# Altium schematic symbol library MI_Personal.SchLib: 995 symbols (part 4 of 12)
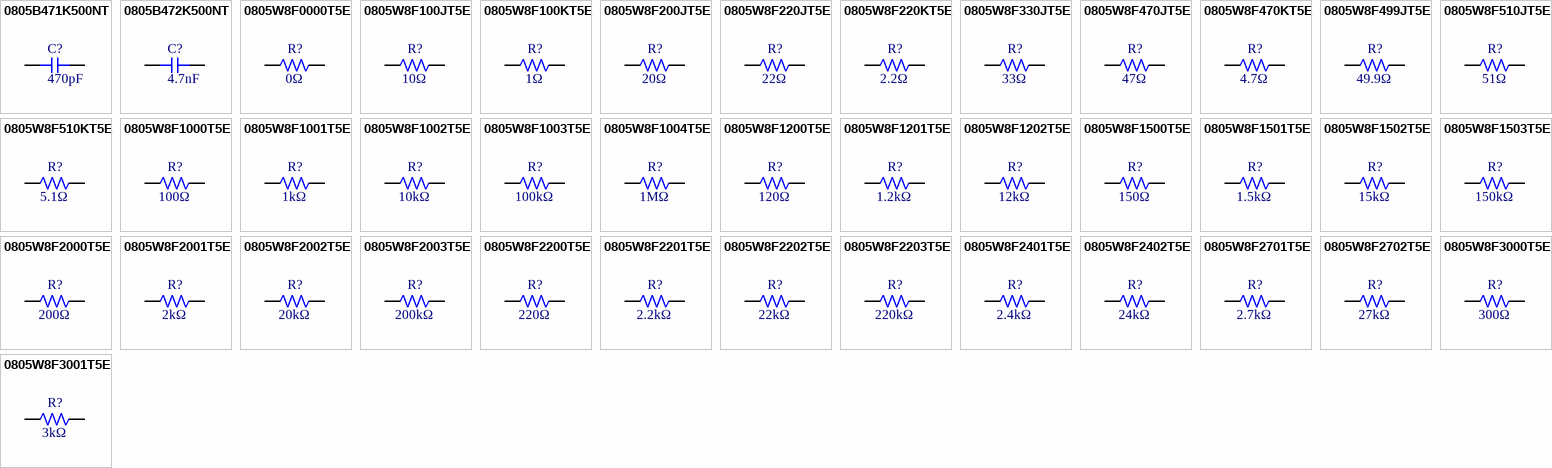
[diagram p30: symbols 0805B471K500NT to 0805W8F3001T5E]

## 0805W8F2200T5E
designator R?  Resistance: 220Ω  (hidden comment: *)
Resistor, 220Ω, ±1%, 125mW, 150V, ±100ppm/℃, -55℃~+155℃, SMD 0805; Manufacturer: Uniroyal; Manufacturer Part Number: 0805W8F2200T5E; Supplier 1: LCSC; Supplier Part Number 1: C17557; JLCPCB Part Number: C17557; Power Rating: 125mW; Category: Resistors; Package Size: 0805; JLCPCB Basic Part: Yes; Tolerance: ±1%; Voltage Rating: 150V; Temperature Coefficient: ±100ppm/℃; Temperature Rating: -55℃~+155℃; ComponentLink1Description: Datasheet; ComponentLink1URL: https://wmsc.lcsc.com/wmsc/upload/file/pdf/v2/lcsc/2206010200_UNI-ROYAL-Uniroyal-Elec-0805W8F2200T5E_C17557.pdf; ComponentLink2Description: JLCPCB Part URL; ComponentLink2URL: https://jlcpcb.com/partdetail/C17557
footprint RES-0805 (0805 (2012M) Resistor)
pins: 1, 2
1 alternate drawing of the same symbol

## 0805W8F2201T5E
designator R?  Resistance: 2.2kΩ  (hidden comment: *)
Resistor, 2.2kΩ, ±1%, 125mW, 150V, ±100ppm/℃, -55℃~+155℃, SMD 0805; Manufacturer: Uniroyal; Manufacturer Part Number: 0805W8F2201T5E; Supplier 1: LCSC; Supplier Part Number 1: C17520; JLCPCB Part Number: C17520; Power Rating: 125mW; Category: Resistors; Package Size: 0805; JLCPCB Basic Part: Yes; Tolerance: ±1%; Voltage Rating: 150V; Temperature Coefficient: ±100ppm/℃; Temperature Rating: -55℃~+155℃; ComponentLink1Description: Datasheet; ComponentLink1URL: https://wmsc.lcsc.com/wmsc/upload/file/pdf/v2/lcsc/2206010200_UNI-ROYAL-Uniroyal-Elec-0805W8F2201T5E_C17520.pdf; ComponentLink2Description: JLCPCB Part URL; ComponentLink2URL: https://jlcpcb.com/partdetail/C17520
footprint RES-0805 (0805 (2012M) Resistor)
pins: 1, 2
1 alternate drawing of the same symbol

## 0805W8F2202T5E
designator R?  Resistance: 22kΩ  (hidden comment: *)
Resistor, 22kΩ, ±1%, 125mW, 150V, ±100ppm/℃, -55℃~+155℃, SMD 0805; Manufacturer: Uniroyal; Manufacturer Part Number: 0805W8F2202T5E; Supplier 1: LCSC; Supplier Part Number 1: C17560; JLCPCB Part Number: C17560; Power Rating: 125mW; Category: Resistors; Package Size: 0805; JLCPCB Basic Part: Yes; Tolerance: ±1%; Voltage Rating: 150V; Temperature Coefficient: ±100ppm/℃; Temperature Rating: -55℃~+155℃; ComponentLink1Description: Datasheet; ComponentLink1URL: https://wmsc.lcsc.com/wmsc/upload/file/pdf/v2/lcsc/2206010200_UNI-ROYAL-Uniroyal-Elec-0805W8F2202T5E_C17560.pdf; ComponentLink2Description: JLCPCB Part URL; ComponentLink2URL: https://jlcpcb.com/partdetail/C17560
footprint RES-0805 (0805 (2012M) Resistor)
pins: 1, 2
1 alternate drawing of the same symbol

## 0805W8F2203T5E
designator R?  Resistance: 220kΩ  (hidden comment: *)
Resistor, 220kΩ, ±1%, 125mW, 150V, ±100ppm/℃, -55℃~+155℃, SMD 0805; Manufacturer: Uniroyal; Manufacturer Part Number: 0805W8F2203T5E; Supplier 1: LCSC; Supplier Part Number 1: C17556; JLCPCB Part Number: C17556; Power Rating: 125mW; Category: Resistors; Package Size: 0805; JLCPCB Basic Part: Yes; Tolerance: ±1%; Voltage Rating: 150V; Temperature Coefficient: ±100ppm/℃; Temperature Rating: -55℃~+155℃; ComponentLink1Description: Datasheet; ComponentLink1URL: https://wmsc.lcsc.com/wmsc/upload/file/pdf/v2/lcsc/2206010200_UNI-ROYAL-Uniroyal-Elec-0805W8F2203T5E_C17556.pdf; ComponentLink2Description: JLCPCB Part URL; ComponentLink2URL: https://jlcpcb.com/partdetail/C17556
footprint RES-0805 (0805 (2012M) Resistor)
pins: 1, 2
1 alternate drawing of the same symbol

## 0805W8F2401T5E
designator R?  Resistance: 2.4kΩ  (hidden comment: *)
Resistor, 2.4kΩ, ±1%, 125mW, 150V, ±100ppm/℃, -55℃~+155℃, SMD 0805; Manufacturer: Uniroyal; Manufacturer Part Number: 0805W8F2401T5E; Supplier 1: LCSC; Supplier Part Number 1: C17526; JLCPCB Part Number: C17526; Power Rating: 125mW; Category: Resistors; Package Size: 0805; JLCPCB Basic Part: Yes; Tolerance: ±1%; Voltage Rating: 150V; Temperature Coefficient: ±100ppm/℃; Temperature Rating: -55℃~+155℃; ComponentLink1Description: Datasheet; ComponentLink1URL: https://wmsc.lcsc.com/wmsc/upload/file/pdf/v2/lcsc/2206010200_UNI-ROYAL-Uniroyal-Elec-0805W8F2401T5E_C17526.pdf; ComponentLink2Description: JLCPCB Part URL; ComponentLink2URL: https://jlcpcb.com/partdetail/C17526
footprint RES-0805 (0805 (2012M) Resistor)
pins: 1, 2
1 alternate drawing of the same symbol

## 0805W8F2402T5E
designator R?  Resistance: 24kΩ  (hidden comment: *)
Resistor, 24kΩ, ±1%, 125mW, 150V, ±100ppm/℃, -55℃~+155℃, SMD 0805; Manufacturer: Uniroyal; Manufacturer Part Number: 0805W8F2402T5E; Supplier 1: LCSC; Supplier Part Number 1: C17575; JLCPCB Part Number: C17575; Power Rating: 125mW; Category: Resistors; Package Size: 0805; JLCPCB Basic Part: Yes; Tolerance: ±1%; Voltage Rating: 150V; Temperature Coefficient: ±100ppm/℃; Temperature Rating: -55℃~+155℃; ComponentLink1Description: Datasheet; ComponentLink1URL: https://wmsc.lcsc.com/wmsc/upload/file/pdf/v2/lcsc/2206010200_UNI-ROYAL-Uniroyal-Elec-0805W8F2402T5E_C17575.pdf; ComponentLink2Description: JLCPCB Part URL; ComponentLink2URL: https://jlcpcb.com/partdetail/C17575
footprint RES-0805 (0805 (2012M) Resistor)
pins: 1, 2
1 alternate drawing of the same symbol

## 0805W8F2701T5E
designator R?  Resistance: 2.7kΩ  (hidden comment: *)
Resistor, 2.7kΩ, ±1%, 125mW, 150V, ±100ppm/℃, -55℃~+155℃, SMD 0805; Manufacturer: Uniroyal; Manufacturer Part Number: 0805W8F2701T5E; Supplier 1: LCSC; Supplier Part Number 1: C17530; JLCPCB Part Number: C17530; Power Rating: 125mW; Category: Resistors; Package Size: 0805; JLCPCB Basic Part: Yes; Tolerance: ±1%; Voltage Rating: 150V; Temperature Coefficient: ±100ppm/℃; Temperature Rating: -55℃~+155℃; ComponentLink1Description: Datasheet; ComponentLink1URL: https://wmsc.lcsc.com/wmsc/upload/file/pdf/v2/lcsc/2206010200_UNI-ROYAL-Uniroyal-Elec-0805W8F2701T5E_C17530.pdf; ComponentLink2Description: JLCPCB Part URL; ComponentLink2URL: https://jlcpcb.com/partdetail/C17530
footprint RES-0805 (0805 (2012M) Resistor)
pins: 1, 2
1 alternate drawing of the same symbol

## 0805W8F2702T5E
designator R?  Resistance: 27kΩ  (hidden comment: *)
Resistor, 27kΩ, ±1%, 125mW, 150V, ±100ppm/℃, -55℃~+155℃, SMD 0805; Manufacturer: Uniroyal; Manufacturer Part Number: 0805W8F2702T5E; Supplier 1: LCSC; Supplier Part Number 1: C17593; JLCPCB Part Number: C17593; Power Rating: 125mW; Category: Resistors; Package Size: 0805; JLCPCB Basic Part: Yes; Tolerance: ±1%; Voltage Rating: 150V; Temperature Coefficient: ±100ppm/℃; Temperature Rating: -55℃~+155℃; ComponentLink1Description: Datasheet; ComponentLink1URL: https://wmsc.lcsc.com/wmsc/upload/file/pdf/v2/lcsc/2206010200_UNI-ROYAL-Uniroyal-Elec-0805W8F2702T5E_C17593.pdf; ComponentLink2Description: JLCPCB Part URL; ComponentLink2URL: https://jlcpcb.com/partdetail/C17593
footprint RES-0805 (0805 (2012M) Resistor)
pins: 1, 2
1 alternate drawing of the same symbol

## 0805W8F3000T5E
designator R?  Resistance: 300Ω  (hidden comment: *)
Resistor, 300Ω, ±1%, 125mW, 150V, ±100ppm/℃, -55℃~+155℃, SMD 0805; Manufacturer: Uniroyal; Manufacturer Part Number: 0805W8F3000T5E; Supplier 1: LCSC; Supplier Part Number 1: C17617; JLCPCB Part Number: C17617; Power Rating: 125mW; Category: Resistors; Package Size: 0805; JLCPCB Basic Part: Yes; Tolerance: ±1%; Voltage Rating: 150V; Temperature Coefficient: ±100ppm/℃; Temperature Rating: -55℃~+155℃
footprint RES-0805 (0805 (2012M) Resistor)
pins: 1, 2
1 alternate drawing of the same symbol

## 0805W8F3001T5E
designator R?  Resistance: 3kΩ  (hidden comment: *)
Resistor, 3kΩ, ±1%, 125mW, 150V, ±100ppm/℃, -55℃~+155℃, SMD 0805; Manufacturer: Uniroyal; Manufacturer Part Number: 0805W8F3001T5E; Supplier 1: LCSC; Supplier Part Number 1: C17661; JLCPCB Part Number: C17661; Power Rating: 125mW; Category: Resistors; Package Size: 0805; JLCPCB Basic Part: Yes; Tolerance: ±1%; Voltage Rating: 150V; Temperature Coefficient: ±100ppm/℃; Temperature Rating: -55℃~+155℃; ComponentLink1Description: Datasheet; ComponentLink1URL: https://wmsc.lcsc.com/wmsc/upload/file/pdf/v2/lcsc/2206010200_UNI-ROYAL-Uniroyal-Elec-0805W8F3001T5E_C17661.pdf; ComponentLink2Description: JLCPCB Part URL; ComponentLink2URL: https://jlcpcb.com/partdetail/C17661
footprint RES-0805 (0805 (2012M) Resistor)
pins: 1, 2
1 alternate drawing of the same symbol

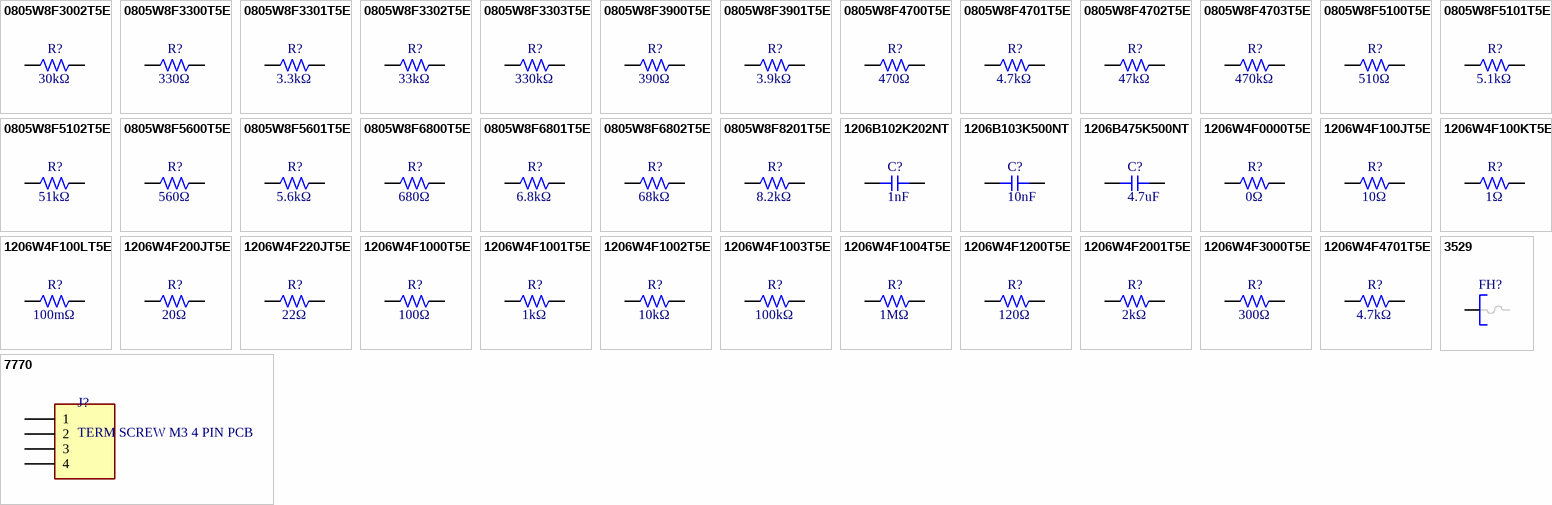
[diagram p5: symbols 0805W8F3002T5E to 7770]

## 0805W8F3002T5E
designator R?  Resistance: 30kΩ  (hidden comment: *)
Resistor, 30kΩ, ±1%, 125mW, 150V, ±100ppm/℃, -55℃~+155℃, SMD 0805; Manufacturer: Uniroyal; Manufacturer Part Number: 0805W8F3002T5E; Supplier 1: LCSC; Supplier Part Number 1: C17621; JLCPCB Part Number: C17621; Power Rating: 125mW; Category: Resistors; Package Size: 0805; JLCPCB Basic Part: Yes; Tolerance: ±1%; Voltage Rating: 150V; Temperature Coefficient: ±100ppm/℃; Temperature Rating: -55℃~+155℃; ComponentLink1Description: Datasheet; ComponentLink1URL: https://wmsc.lcsc.com/wmsc/upload/file/pdf/v2/lcsc/2205311830_UNI-ROYAL-Uniroyal-Elec-0805W8F3002T5E_C17621.pdf; ComponentLink2Description: JLCPCB Part URL; ComponentLink2URL: https://jlcpcb.com/partdetail/C17621
footprint RES-0805 (0805 (2012M) Resistor)
pins: 1, 2
1 alternate drawing of the same symbol

## 0805W8F3300T5E
designator R?  Resistance: 330Ω  (hidden comment: *)
Resistor, 330Ω, ±1%, 125mW, 150V, ±100ppm/℃, -55℃~+155℃, SMD 0805; Manufacturer: Uniroyal; Manufacturer Part Number: 0805W8F3300T5E; Supplier 1: LCSC; Supplier Part Number 1: C17630; JLCPCB Part Number: C17630; Power Rating: 125mW; Category: Resistors; Package Size: 0805; JLCPCB Basic Part: Yes; Tolerance: ±1%; Voltage Rating: 150V; Temperature Coefficient: ±100ppm/℃; Temperature Rating: -55℃~+155℃; ComponentLink1Description: Datasheet; ComponentLink1URL: https://wmsc.lcsc.com/wmsc/upload/file/pdf/v2/lcsc/2205311830_UNI-ROYAL-Uniroyal-Elec-0805W8F3300T5E_C17630.pdf; ComponentLink2Description: JLCPCB Part URL; ComponentLink2URL: https://jlcpcb.com/partdetail/C17630
footprint RES-0805 (0805 (2012M) Resistor)
pins: 1, 2
1 alternate drawing of the same symbol

## 0805W8F3301T5E
designator R?  Resistance: 3.3kΩ  (hidden comment: *)
Resistor, 3.3kΩ, ±1%, 125mW, 150V, ±100ppm/℃, -55℃~+155℃, SMD 0805; Manufacturer: Uniroyal; Manufacturer Part Number: 0805W8F3301T5E; Supplier 1: LCSC; Supplier Part Number 1: C26010; JLCPCB Part Number: C26010; Power Rating: 125mW; Category: Resistors; Package Size: 0805; JLCPCB Basic Part: Yes; Tolerance: ±1%; Voltage Rating: 150V; Temperature Coefficient: ±100ppm/℃; Temperature Rating: -55℃~+155℃; ComponentLink1Description: Datasheet; ComponentLink1URL: https://wmsc.lcsc.com/wmsc/upload/file/pdf/v2/lcsc/2206010045_UNI-ROYAL-Uniroyal-Elec-0805W8F3301T5E_C26010.pdf; ComponentLink2Description: JLCPCB Part URL; ComponentLink2URL: https://jlcpcb.com/partdetail/C26010
footprint RES-0805 (0805 (2012M) Resistor)
pins: 1, 2
1 alternate drawing of the same symbol

## 0805W8F3302T5E
designator R?  Resistance: 33kΩ  (hidden comment: *)
Resistor, 33kΩ, ±1%, 125mW, 150V, ±100ppm/℃, -55℃~+155℃, SMD 0805; Manufacturer: Uniroyal; Manufacturer Part Number: 0805W8F3302T5E; Supplier 1: LCSC; Supplier Part Number 1: C17633; JLCPCB Part Number: C17633; Power Rating: 125mW; Category: Resistors; Package Size: 0805; JLCPCB Basic Part: Yes; Tolerance: ±1%; Voltage Rating: 150V; Temperature Coefficient: ±100ppm/℃; Temperature Rating: -55℃~+155℃; ComponentLink1Description: Datasheet; ComponentLink1URL: https://wmsc.lcsc.com/wmsc/upload/file/pdf/v2/lcsc/2205311830_UNI-ROYAL-Uniroyal-Elec-0805W8F3302T5E_C17633.pdf; ComponentLink2Description: JLCPCB Part URL; ComponentLink2URL: https://jlcpcb.com/partdetail/C17633
footprint RES-0805 (0805 (2012M) Resistor)
pins: 1, 2
1 alternate drawing of the same symbol

## 0805W8F3303T5E
designator R?  Resistance: 330kΩ  (hidden comment: *)
Resistor, 330kΩ, ±1%, 125mW, 150V, ±100ppm/℃, -55℃~+155℃, SMD 0805; Manufacturer: Uniroyal; Manufacturer Part Number: 0805W8F3303T5E; Supplier 1: LCSC; Supplier Part Number 1: C17629; JLCPCB Part Number: C17629; Power Rating: 125mW; Category: Resistors; Package Size: 0805; JLCPCB Basic Part: Yes; Tolerance: ±1%; Voltage Rating: 150V; Temperature Coefficient: ±100ppm/℃; Temperature Rating: -55℃~+155℃
footprint RES-0805 (0805 (2012M) Resistor)
pins: 1, 2
1 alternate drawing of the same symbol

## 0805W8F3900T5E
designator R?  Resistance: 390Ω  (hidden comment: *)
Resistor, 390Ω, ±1%, 125mW, 150V, ±100ppm/℃, -55℃~+155℃, SMD 0805; Manufacturer: Uniroyal; Manufacturer Part Number: 0805W8F3900T5E; Supplier 1: LCSC; Supplier Part Number 1: C17655; JLCPCB Part Number: C17655; Power Rating: 125mW; Category: Resistors; Package Size: 0805; JLCPCB Basic Part: Yes; Tolerance: ±1%; Voltage Rating: 150V; Temperature Coefficient: ±100ppm/℃; Temperature Rating: -55℃~+155℃; ComponentLink1Description: Datasheet; ComponentLink1URL: https://wmsc.lcsc.com/wmsc/upload/file/pdf/v2/lcsc/2206010200_UNI-ROYAL-Uniroyal-Elec-0805W8F3900T5E_C17655.pdf; ComponentLink2Description: JLCPCB Part URL; ComponentLink2URL: https://jlcpcb.com/partdetail/C17655
footprint RES-0805 (0805 (2012M) Resistor)
pins: 1, 2
1 alternate drawing of the same symbol

## 0805W8F3901T5E
designator R?  Resistance: 3.9kΩ  (hidden comment: *)
Resistor, 3.9kΩ, ±1%, 125mW, 150V, ±100ppm/℃, -55℃~+155℃, SMD 0805; Manufacturer: Uniroyal; Manufacturer Part Number: 0805W8F3901T5E; Supplier 1: LCSC; Supplier Part Number 1: C17614; JLCPCB Part Number: C17614; Power Rating: 125mW; Category: Resistors; Package Size: 0805; JLCPCB Basic Part: Yes; Tolerance: ±1%; Voltage Rating: 150V; Temperature Coefficient: ±100ppm/℃; Temperature Rating: -55℃~+155℃; ComponentLink1Description: Datasheet; ComponentLink1URL: https://wmsc.lcsc.com/wmsc/upload/file/pdf/v2/lcsc/2206010200_UNI-ROYAL-Uniroyal-Elec-0805W8F3901T5E_C17614.pdf; ComponentLink2Description: JLCPCB Part URL; ComponentLink2URL: https://jlcpcb.com/partdetail/C17614
footprint RES-0805 (0805 (2012M) Resistor)
pins: 1, 2
1 alternate drawing of the same symbol

## 0805W8F4700T5E
designator R?  Resistance: 470Ω  (hidden comment: *)
Resistor, 470Ω, ±1%, 125mW, 150V, ±100ppm/℃, -55℃~+155℃, SMD 0805; Manufacturer: Uniroyal; Manufacturer Part Number: 0805W8F4700T5E; Supplier 1: LCSC; Supplier Part Number 1: C17710; JLCPCB Part Number: C17710; Power Rating: 125mW; Category: Resistors; Package Size: 0805; JLCPCB Basic Part: Yes; Tolerance: ±1%; Voltage Rating: 150V; Temperature Coefficient: ±100ppm/℃; Temperature Rating: -55℃~+155℃; ComponentLink1Description: Datasheet; ComponentLink1URL: https://wmsc.lcsc.com/wmsc/upload/file/pdf/v2/lcsc/2206010200_UNI-ROYAL-Uniroyal-Elec-0805W8F4700T5E_C17710.pdf; ComponentLink2Description: JLCPCB Part URL; ComponentLink2URL: https://jlcpcb.com/partdetail/C17710
footprint RES-0805 (0805 (2012M) Resistor)
pins: 1, 2
1 alternate drawing of the same symbol

## 0805W8F4701T5E
designator R?  Resistance: 4.7kΩ  (hidden comment: *)
Resistor, 4.7kΩ, ±1%, 125mW, 150V, ±100ppm/℃, -55℃~+155℃, SMD 0805; Manufacturer: Uniroyal; Manufacturer Part Number: 0805W8F4701T5E; Supplier 1: LCSC; Supplier Part Number 1: C17673; JLCPCB Part Number: C17673; Power Rating: 125mW; Category: Resistors; Package Size: 0805; JLCPCB Basic Part: Yes; Tolerance: ±1%; Voltage Rating: 150V; Temperature Coefficient: ±100ppm/℃; Temperature Rating: -55℃~+155℃; ComponentLink1Description: Datasheet; ComponentLink1URL: https://wmsc.lcsc.com/wmsc/upload/file/pdf/v2/lcsc/2206010200_UNI-ROYAL-Uniroyal-Elec-0805W8F4701T5E_C17673.pdf; ComponentLink2Description: JLCPCB Part URL; ComponentLink2URL: https://jlcpcb.com/partdetail/C17673
footprint RES-0805 (0805 (2012M) Resistor)
pins: 1, 2
1 alternate drawing of the same symbol

## 0805W8F4702T5E
designator R?  Resistance: 47kΩ  (hidden comment: *)
Resistor, 47kΩ, ±1%, 125mW, 150V, ±100ppm/℃, -55℃~+155℃, SMD 0805; Manufacturer: Uniroyal; Manufacturer Part Number: 0805W8F4702T5E; Supplier 1: LCSC; Supplier Part Number 1: C17713; JLCPCB Part Number: C17713; Power Rating: 125mW; Category: Resistors; Package Size: 0805; JLCPCB Basic Part: Yes; Tolerance: ±1%; Voltage Rating: 150V; Temperature Coefficient: ±100ppm/℃; Temperature Rating: -55℃~+155℃; ComponentLink1Description: Datasheet; ComponentLink1URL: https://wmsc.lcsc.com/wmsc/upload/file/pdf/v2/lcsc/2206010200_UNI-ROYAL-Uniroyal-Elec-0805W8F4702T5E_C17713.pdf; ComponentLink2Description: JLCPCB Part URL; ComponentLink2URL: https://jlcpcb.com/partdetail/C17713
footprint RES-0805 (0805 (2012M) Resistor)
pins: 1, 2
1 alternate drawing of the same symbol

## 0805W8F4703T5E
designator R?  Resistance: 470kΩ  (hidden comment: *)
Resistor, 470kΩ, ±1%, 125mW, 150V, ±100ppm/℃, -55℃~+155℃, SMD 0805; Manufacturer: Uniroyal; Manufacturer Part Number: 0805W8F4703T5E; Supplier 1: LCSC; Supplier Part Number 1: C17709; JLCPCB Part Number: C17709; Power Rating: 125mW; Category: Resistors; Package Size: 0805; JLCPCB Basic Part: Yes; Tolerance: ±1%; Voltage Rating: 150V; Temperature Coefficient: ±100ppm/℃; Temperature Rating: -55℃~+155℃; ComponentLink1Description: Datasheet; ComponentLink1URL: https://wmsc.lcsc.com/wmsc/upload/file/pdf/v2/lcsc/2206010200_UNI-ROYAL-Uniroyal-Elec-0805W8F4703T5E_C17709.pdf; ComponentLink2Description: JLCPCB Part URL; ComponentLink2URL: https://jlcpcb.com/partdetail/C17709
footprint RES-0805 (0805 (2012M) Resistor)
pins: 1, 2
1 alternate drawing of the same symbol

## 0805W8F5100T5E
designator R?  Resistance: 510Ω  (hidden comment: *)
Resistor, 510Ω, ±1%, 125mW, 150V, ±100ppm/℃, -55℃~+155℃, SMD 0805; Manufacturer: Uniroyal; Manufacturer Part Number: 0805W8F5100T5E; Supplier 1: LCSC; Supplier Part Number 1: C17734; JLCPCB Part Number: C17734; Power Rating: 125mW; Category: Resistors; Package Size: 0805; JLCPCB Basic Part: Yes; Tolerance: ±1%; Voltage Rating: 150V; Temperature Coefficient: ±100ppm/℃; Temperature Rating: -55℃~+155℃; ComponentLink1Description: Datasheet; ComponentLink1URL: https://wmsc.lcsc.com/wmsc/upload/file/pdf/v2/lcsc/2206010200_UNI-ROYAL-Uniroyal-Elec-0805W8F5100T5E_C17734.pdf; ComponentLink2Description: JLCPCB Part URL; ComponentLink2URL: https://jlcpcb.com/partdetail/C17734
footprint RES-0805 (0805 (2012M) Resistor)
pins: 1, 2
1 alternate drawing of the same symbol

## 0805W8F5101T5E
designator R?  Resistance: 5.1kΩ  (hidden comment: *)
Resistor, 5.1kΩ, ±1%, 125mW, 150V, ±100ppm/℃, -55℃~+155℃, SMD 0805; Manufacturer: Uniroyal; Manufacturer Part Number: 0805W8F5101T5E; Supplier 1: LCSC; Supplier Part Number 1: C27834; JLCPCB Part Number: C27834; Power Rating: 125mW; Category: Resistors; Package Size: 0805; JLCPCB Basic Part: Yes; Tolerance: ±1%; Voltage Rating: 150V; Temperature Coefficient: ±100ppm/℃; Temperature Rating: -55℃~+155℃; ComponentLink1Description: Datasheet; ComponentLink1URL: https://wmsc.lcsc.com/wmsc/upload/file/pdf/v2/lcsc/2206010030_UNI-ROYAL-Uniroyal-Elec-0805W8F5101T5E_C27834.pdf; ComponentLink2Description: JLCPCB Part URL; ComponentLink2URL: https://jlcpcb.com/partdetail/C27834
footprint RES-0805 (0805 (2012M) Resistor)
pins: 1, 2
1 alternate drawing of the same symbol

## 0805W8F5102T5E
designator R?  Resistance: 51kΩ  (hidden comment: *)
Resistor, 51kΩ, ±1%, 125mW, 150V, ±100ppm/℃, -55℃~+155℃, SMD 0805; Manufacturer: Uniroyal; Manufacturer Part Number: 0805W8F5102T5E; Supplier 1: LCSC; Supplier Part Number 1: C17737; JLCPCB Part Number: C17737; Power Rating: 125mW; Category: Resistors; Package Size: 0805; JLCPCB Basic Part: Yes; Tolerance: ±1%; Voltage Rating: 150V; Temperature Coefficient: ±100ppm/℃; Temperature Rating: -55℃~+155℃; ComponentLink1Description: Datasheet; ComponentLink1URL: https://wmsc.lcsc.com/wmsc/upload/file/pdf/v2/lcsc/2206010200_UNI-ROYAL-Uniroyal-Elec-0805W8F5102T5E_C17737.pdf; ComponentLink2Description: JLCPCB Part URL; ComponentLink2URL: https://jlcpcb.com/partdetail/C17737
footprint RES-0805 (0805 (2012M) Resistor)
pins: 1, 2
1 alternate drawing of the same symbol

## 0805W8F5600T5E
designator R?  Resistance: 560Ω  (hidden comment: *)
Resistor, 560Ω, ±1%, 125mW, 150V, ±100ppm/℃, -55℃~+155℃, SMD 0805; Manufacturer: Uniroyal; Manufacturer Part Number: 0805W8F5600T5E; Supplier 1: LCSC; Supplier Part Number 1: C28636; JLCPCB Part Number: C28636; Power Rating: 125mW; Category: Resistors; Package Size: 0805; JLCPCB Basic Part: Yes; Tolerance: ±1%; Voltage Rating: 150V; Temperature Coefficient: ±100ppm/℃; Temperature Rating: -55℃~+155℃; ComponentLink1Description: Datasheet; ComponentLink1URL: https://wmsc.lcsc.com/wmsc/upload/file/pdf/v2/lcsc/2206010030_UNI-ROYAL-Uniroyal-Elec-0805W8F5600T5E_C28636.pdf; ComponentLink2Description: JLCPCB Part URL; ComponentLink2URL: https://jlcpcb.com/partdetail/C28636
footprint RES-0805 (0805 (2012M) Resistor)
pins: 1, 2
1 alternate drawing of the same symbol

## 0805W8F5601T5E
designator R?  Resistance: 5.6kΩ  (hidden comment: *)
Resistor, 5.6kΩ, ±1%, 125mW, 150V, ±100ppm/℃, -55℃~+155℃, SMD 0805; Manufacturer: Uniroyal; Manufacturer Part Number: 0805W8F5601T5E; Supplier 1: LCSC; Supplier Part Number 1: C4382; JLCPCB Part Number: C4382; Power Rating: 125mW; Category: Resistors; Package Size: 0805; JLCPCB Basic Part: Yes; Tolerance: ±1%; Voltage Rating: 150V; Temperature Coefficient: ±100ppm/℃; Temperature Rating: -55℃~+155℃; ComponentLink1Description: Datasheet; ComponentLink1URL: https://wmsc.lcsc.com/wmsc/upload/file/pdf/v2/lcsc/2206010216_UNI-ROYAL-Uniroyal-Elec-0805W8F5601T5E_C4382.pdf; ComponentLink2Description: JLCPCB Part URL; ComponentLink2URL: https://jlcpcb.com/partdetail/C4382
footprint RES-0805 (0805 (2012M) Resistor)
pins: 1, 2
1 alternate drawing of the same symbol

## 0805W8F6800T5E
designator R?  Resistance: 680Ω  (hidden comment: *)
Resistor, 680Ω, ±1%, 125mW, 150V, ±100ppm/℃, -55℃~+155℃, SMD 0805; Manufacturer: Uniroyal; Manufacturer Part Number: 0805W8F6800T5E; Supplier 1: LCSC; Supplier Part Number 1: C17798; JLCPCB Part Number: C17798; Power Rating: 125mW; Category: Resistors; Package Size: 0805; JLCPCB Basic Part: Yes; Tolerance: ±1%; Voltage Rating: 150V; Temperature Coefficient: ±100ppm/℃; Temperature Rating: -55℃~+155℃; ComponentLink1Description: Datasheet; ComponentLink1URL: https://wmsc.lcsc.com/wmsc/upload/file/pdf/v2/lcsc/2205311830_UNI-ROYAL-Uniroyal-Elec-0805W8F6800T5E_C17798.pdf; ComponentLink2Description: JLCPCB Part URL; ComponentLink2URL: https://jlcpcb.com/partdetail/C17798
footprint RES-0805 (0805 (2012M) Resistor)
pins: 1, 2
1 alternate drawing of the same symbol

## 0805W8F6801T5E
designator R?  Resistance: 6.8kΩ  (hidden comment: *)
Resistor, 6.8kΩ, ±1%, 125mW, 150V, ±100ppm/℃, -55℃~+155℃, SMD 0805; Manufacturer: Uniroyal; Manufacturer Part Number: 0805W8F6801T5E; Supplier 1: LCSC; Supplier Part Number 1: C17772; JLCPCB Part Number: C17772; Power Rating: 125mW; Category: Resistors; Package Size: 0805; JLCPCB Basic Part: Yes; Tolerance: ±1%; Voltage Rating: 150V; Temperature Coefficient: ±100ppm/℃; Temperature Rating: -55℃~+155℃; ComponentLink1Description: Datasheet; ComponentLink1URL: https://wmsc.lcsc.com/wmsc/upload/file/pdf/v2/lcsc/2205311830_UNI-ROYAL-Uniroyal-Elec-0805W8F6801T5E_C17772.pdf; ComponentLink2Description: JLCPCB Part URL; ComponentLink2URL: https://jlcpcb.com/partdetail/C17772
footprint RES-0805 (0805 (2012M) Resistor)
pins: 1, 2
1 alternate drawing of the same symbol

## 0805W8F6802T5E
designator R?  Resistance: 68kΩ  (hidden comment: *)
Resistor, 68kΩ, ±1%, 125mW, 150V, ±100ppm/℃, -55℃~+155℃, SMD 0805; Manufacturer: Uniroyal; Manufacturer Part Number: 0805W8F6802T5E; Supplier 1: LCSC; Supplier Part Number 1: C17801; JLCPCB Part Number: C17801; Power Rating: 125mW; Category: Resistors; Package Size: 0805; JLCPCB Basic Part: Yes; Tolerance: ±1%; Voltage Rating: 150V; Temperature Coefficient: ±100ppm/℃; Temperature Rating: -55℃~+155℃; ComponentLink1Description: Datasheet; ComponentLink1URL: https://wmsc.lcsc.com/wmsc/upload/file/pdf/v2/lcsc/2205311830_UNI-ROYAL-Uniroyal-Elec-0805W8F6802T5E_C17801.pdf; ComponentLink2Description: JLCPCB Part URL; ComponentLink2URL: https://jlcpcb.com/partdetail/C17801
footprint RES-0805 (0805 (2012M) Resistor)
pins: 1, 2
1 alternate drawing of the same symbol

## 0805W8F8201T5E
designator R?  Resistance: 8.2kΩ  (hidden comment: *)
Resistor, 8.2kΩ, ±1%, 125mW, 150V, ±100ppm/℃, -55℃~+155℃, SMD 0805; Manufacturer: Uniroyal; Manufacturer Part Number: 0805W8F8201T5E; Supplier 1: LCSC; Supplier Part Number 1: C17828; JLCPCB Part Number: C17828; Power Rating: 125mW; Category: Resistors; Package Size: 0805; JLCPCB Basic Part: Yes; Tolerance: ±1%; Voltage Rating: 150V; Temperature Coefficient: ±100ppm/℃; Temperature Rating: -55℃~+155℃; ComponentLink1Description: Datasheet; ComponentLink1URL: https://wmsc.lcsc.com/wmsc/upload/file/pdf/v2/lcsc/2205311830_UNI-ROYAL-Uniroyal-Elec-0805W8F8201T5E_C17828.pdf; ComponentLink2Description: JLCPCB Part URL; ComponentLink2URL: https://jlcpcb.com/partdetail/C17828
footprint RES-0805 (0805 (2012M) Resistor)
pins: 1, 2
1 alternate drawing of the same symbol

## 1206B102K202NT
designator C?  Capacitance: 1nF  (hidden comment: *)
Capacitor, Ceramic (MLCC), 1nF, ±10%, 2kV, X7R, ±10%, SMD 1206; Manufacturer: FH(Guangdong Fenghua Advanced Tech); Manufacturer Part Number: 1206B102K202NT; Package Size: 1206; JLCPCB Basic Part: Yes; JLCPCB Part Number: C9196; Supplier 1: LCSC; Category: Capacitors - MLCC; Supplier Part Number 1: C9196; Tolerance: ±10%; Voltage Rating: 2kV; Temperature Coefficient: X7R; RoHS: Yes; ComponentLink1Description: Datasheet; ComponentLink1URL: https://wmsc.lcsc.com/wmsc/upload/file/pdf/v2/lcsc/2304140030_FH--Guangdong-Fenghua-Advanced-Tech-1206B102K202NT_C9196.pdf; ComponentLink2Description: JLCPCB Part URL; ComponentLink2URL: https://jlcpcb.com/partdetail/C9196; ComponentLink3Description: LCSC Part URL; ComponentLink3URL: https://lcsc.com/product-detail/Multilayer-Ceramic-Capacitors-MLCC---SMD-SMT_FH-Guangdong-Fenghua-Advanced-Tech-FH-Guangdong-Fenghua-Advanced-Tech-1206B102K202NT_C9196.html
footprint CAP-1206 (1206 (3216M) Capacitor)
pins: 1, 2

## 1206B103K500NT
designator C?  Capacitance: 10nF  (hidden comment: *)
Capacitor, Ceramic (MLCC), 10nF, ±10%, 50V, X7R, ±10%, SMD 1206; Manufacturer: FH(Guangdong Fenghua Advanced Tech); Manufacturer Part Number: 1206B103K500NT; Package Size: 1206; JLCPCB Basic Part: Yes; JLCPCB Part Number: C1846; Supplier 1: LCSC; Category: Capacitors - MLCC; Supplier Part Number 1: C1846; Tolerance: ±10%; Voltage Rating: 50V; Temperature Coefficient: X7R; RoHS: Yes; ComponentLink1Description: Datasheet; ComponentLink1URL: https://wmsc.lcsc.com/wmsc/upload/file/pdf/v2/lcsc/2304140030_FH--Guangdong-Fenghua-Advanced-Tech-1206B103K500NT_C1846.pdf; ComponentLink2Description: JLCPCB Part URL; ComponentLink2URL: https://jlcpcb.com/partdetail/C1846; ComponentLink3Description: LCSC Part URL; ComponentLink3URL: https://lcsc.com/product-detail/Multilayer-Ceramic-Capacitors-MLCC---SMD-SMT_FH-Guangdong-Fenghua-Advanced-Tech-FH-Guangdong-Fenghua-Advanced-Tech-1206B103K500NT_C1846.html
footprint CAP-1206 (1206 (3216M) Capacitor)
pins: 1, 2

## 1206B475K500NT
designator C?  Capacitance: 4.7uF  (hidden comment: *)
Capacitor, Ceramic (MLCC), 4.7uF, ±10%, 50V, X7R, ±10%, SMD 1206; Manufacturer: FH(Guangdong Fenghua Advanced Tech); Manufacturer Part Number: 1206B475K500NT; Package Size: 1206; JLCPCB Basic Part: Yes; JLCPCB Part Number: C29823; Supplier 1: LCSC; Category: Capacitors - MLCC; Supplier Part Number 1: C29823; Tolerance: ±10%; Voltage Rating: 50V; Temperature Coefficient: X7R; RoHS: Yes; ComponentLink1Description: Datasheet; ComponentLink1URL: https://wmsc.lcsc.com/wmsc/upload/file/pdf/v2/lcsc/2304140030_FH--Guangdong-Fenghua-Advanced-Tech-1206B475K500NT_C29823.pdf; ComponentLink2Description: JLCPCB Part URL; ComponentLink2URL: https://jlcpcb.com/partdetail/C29823; ComponentLink3Description: LCSC Part URL; ComponentLink3URL: https://lcsc.com/product-detail/Multilayer-Ceramic-Capacitors-MLCC---SMD-SMT_FH-Guangdong-Fenghua-Advanced-Tech-FH-Guangdong-Fenghua-Advanced-Tech-1206B475K500NT_C29823.html
footprint CAP-1206 (1206 (3216M) Capacitor)
pins: 1, 2

## 1206W4F0000T5E
designator R?  Resistance: 0Ω  (hidden comment: *)
Resistor, 0Ω, ±1%, 250mW, 200V, ±800ppm/℃, -55℃~+155℃, SMD 1206; Manufacturer: Uniroyal; Manufacturer Part Number: 1206W4F0000T5E; Supplier 1: LCSC; Supplier Part Number 1: C17888; JLCPCB Part Number: C17888; Power Rating: 250mW; Category: Resistors; Package Size: 1206; JLCPCB Basic Part: Yes; Tolerance: ±1%; Voltage Rating: 200V; Temperature Coefficient: ±800ppm/℃; Temperature Rating: -55℃~+155℃; ComponentLink1Description: Datasheet; ComponentLink1URL: https://wmsc.lcsc.com/wmsc/upload/file/pdf/v2/lcsc/2206010200_UNI-ROYAL-Uniroyal-Elec-1206W4F0000T5E_C17888.pdf; ComponentLink2Description: JLCPCB Part URL; ComponentLink2URL: https://jlcpcb.com/partdetail/C17888
footprint RES-1206 (1206 (3216M) Resistor)
pins: 1, 2
1 alternate drawing of the same symbol

## 1206W4F100JT5E
designator R?  Resistance: 10Ω  (hidden comment: *)
Resistor, 10Ω, ±1%, 250mW, 200V, ±400ppm/℃, -55℃~+155℃, SMD 1206; Manufacturer: Uniroyal; Manufacturer Part Number: 1206W4F100JT5E; Supplier 1: LCSC; Supplier Part Number 1: C17903; JLCPCB Part Number: C17903; Power Rating: 250mW; Category: Resistors; Package Size: 1206; JLCPCB Basic Part: Yes; Tolerance: ±1%; Voltage Rating: 200V; Temperature Coefficient: ±400ppm/℃; Temperature Rating: -55℃~+155℃; ComponentLink1Description: Datasheet; ComponentLink1URL: https://wmsc.lcsc.com/wmsc/upload/file/pdf/v2/lcsc/2206010145_UNI-ROYAL-Uniroyal-Elec-1206W4F100JT5E_C17903.pdf; ComponentLink2Description: JLCPCB Part URL; ComponentLink2URL: https://jlcpcb.com/partdetail/C17903
footprint RES-1206 (1206 (3216M) Resistor)
pins: 1, 2
1 alternate drawing of the same symbol

## 1206W4F100KT5E
designator R?  Resistance: 1Ω  (hidden comment: *)
Resistor, 1Ω, ±1%, 250mW, 200V, ±800ppm/℃, -55℃~+155℃, SMD 1206; Manufacturer: Uniroyal; Manufacturer Part Number: 1206W4F100KT5E; Supplier 1: LCSC; Supplier Part Number 1: C17928; JLCPCB Part Number: C17928; Power Rating: 250mW; Category: Resistors; Package Size: 1206; JLCPCB Basic Part: Yes; Tolerance: ±1%; Voltage Rating: 200V; Temperature Coefficient: ±800ppm/℃; Temperature Rating: -55℃~+155℃; ComponentLink1Description: Datasheet; ComponentLink1URL: https://wmsc.lcsc.com/wmsc/upload/file/pdf/v2/lcsc/2206010145_UNI-ROYAL-Uniroyal-Elec-1206W4F100KT5E_C17928.pdf; ComponentLink2Description: JLCPCB Part URL; ComponentLink2URL: https://jlcpcb.com/partdetail/C17928
footprint RES-1206 (1206 (3216M) Resistor)
pins: 1, 2
1 alternate drawing of the same symbol

## 1206W4F100LT5E
designator R?  Resistance: 100mΩ  (hidden comment: *)
Resistor, 100mΩ, ±1%, 250mW, 200V, ±800ppm/℃, -55℃~+155℃, SMD 1206; Manufacturer: Uniroyal; Manufacturer Part Number: 1206W4F100LT5E; Supplier 1: LCSC; Supplier Part Number 1: C25334; JLCPCB Part Number: C25334; Power Rating: 250mW; Category: Resistors; Package Size: 1206; JLCPCB Basic Part: Yes; Tolerance: ±1%; Voltage Rating: 200V; Temperature Coefficient: ±800ppm/℃; Temperature Rating: -55℃~+155℃; ComponentLink1Description: Datasheet; ComponentLink1URL: https://wmsc.lcsc.com/wmsc/upload/file/pdf/v2/lcsc/2205311900_UNI-ROYAL-Uniroyal-Elec-1206W4F100LT5E_C25334.pdf; ComponentLink2Description: JLCPCB Part URL; ComponentLink2URL: https://jlcpcb.com/partdetail/C25334
footprint RES-1206 (1206 (3216M) Resistor)
pins: 1, 2
1 alternate drawing of the same symbol

## 1206W4F200JT5E
designator R?  Resistance: 20Ω  (hidden comment: *)
Resistor, 20Ω, ±1%, 250mW, 200V, ±100ppm/℃, -55℃~+155℃, SMD 1206; Manufacturer: Uniroyal; Manufacturer Part Number: 1206W4F200JT5E; Supplier 1: LCSC; Supplier Part Number 1: C17955; JLCPCB Part Number: C17955; Power Rating: 250mW; Category: Resistors; Package Size: 1206; JLCPCB Basic Part: Yes; Tolerance: ±1%; Voltage Rating: 200V; Temperature Coefficient: ±100ppm/℃; Temperature Rating: -55℃~+155℃; ComponentLink1Description: Datasheet; ComponentLink1URL: https://wmsc.lcsc.com/wmsc/upload/file/pdf/v2/lcsc/2206010145_UNI-ROYAL-Uniroyal-Elec-1206W4F200JT5E_C17955.pdf; ComponentLink2Description: JLCPCB Part URL; ComponentLink2URL: https://jlcpcb.com/partdetail/C17955
footprint RES-1206 (1206 (3216M) Resistor)
pins: 1, 2
1 alternate drawing of the same symbol

## 1206W4F220JT5E
designator R?  Resistance: 22Ω  (hidden comment: *)
Resistor, 22Ω, ±1%, 250mW, 200V, ±100ppm/℃, -55℃~+155℃, SMD 1206; Manufacturer: Uniroyal; Manufacturer Part Number: 1206W4F220JT5E; Supplier 1: LCSC; Supplier Part Number 1: C17958; JLCPCB Part Number: C17958; Power Rating: 250mW; Category: Resistors; Package Size: 1206; JLCPCB Basic Part: Yes; Tolerance: ±1%; Voltage Rating: 200V; Temperature Coefficient: ±100ppm/℃; Temperature Rating: -55℃~+155℃; ComponentLink1Description: Datasheet; ComponentLink1URL: https://wmsc.lcsc.com/wmsc/upload/file/pdf/v2/lcsc/2206010145_UNI-ROYAL-Uniroyal-Elec-1206W4F220JT5E_C17958.pdf; ComponentLink2Description: JLCPCB Part URL; ComponentLink2URL: https://jlcpcb.com/partdetail/C17958
footprint RES-1206 (1206 (3216M) Resistor)
pins: 1, 2
1 alternate drawing of the same symbol

## 1206W4F1000T5E
designator R?  Resistance: 100Ω  (hidden comment: *)
Resistor, 100Ω, ±1%, 250mW, 200V, ±100ppm/℃, -55℃~+155℃, SMD 1206; Manufacturer: Uniroyal; Manufacturer Part Number: 1206W4F1000T5E; Supplier 1: LCSC; Supplier Part Number 1: C17901; JLCPCB Part Number: C17901; Power Rating: 250mW; Category: Resistors; Package Size: 1206; JLCPCB Basic Part: Yes; Tolerance: ±1%; Voltage Rating: 200V; Temperature Coefficient: ±100ppm/℃; Temperature Rating: -55℃~+155℃; ComponentLink1Description: Datasheet; ComponentLink1URL: https://wmsc.lcsc.com/wmsc/upload/file/pdf/v2/lcsc/2206010145_UNI-ROYAL-Uniroyal-Elec-1206W4F1000T5E_C17901.pdf; ComponentLink2Description: JLCPCB Part URL; ComponentLink2URL: https://jlcpcb.com/partdetail/C17901
footprint RES-1206 (1206 (3216M) Resistor)
pins: 1, 2
1 alternate drawing of the same symbol

## 1206W4F1001T5E
designator R?  Resistance: 1kΩ  (hidden comment: *)
Resistor, 1kΩ, ±1%, 250mW, 200V, -55℃~+155℃, SMD 1206; Manufacturer: Uniroyal; Manufacturer Part Number: 1206W4F1001T5E; Supplier 1: LCSC; Supplier Part Number 1: C4410; JLCPCB Part Number: C4410; Power Rating: 250mW; Category: Resistors; Package Size: 1206; JLCPCB Basic Part: Yes; Tolerance: ±1%; Voltage Rating: 200V; Temperature Rating: -55℃~+155℃; ComponentLink1Description: Datasheet; ComponentLink1URL: https://wmsc.lcsc.com/wmsc/upload/file/pdf/v2/lcsc/2206010216_UNI-ROYAL-Uniroyal-Elec-1206W4F1001T5E_C4410.pdf; ComponentLink2Description: JLCPCB Part URL; ComponentLink2URL: https://jlcpcb.com/partdetail/C4410
footprint RES-1206 (1206 (3216M) Resistor)
pins: 1, 2
1 alternate drawing of the same symbol

## 1206W4F1002T5E
designator R?  Resistance: 10kΩ  (hidden comment: *)
Resistor, 10kΩ, ±1%, 250mW, 200V, ±100ppm/℃, -55℃~+155℃, SMD 1206; Manufacturer: Uniroyal; Manufacturer Part Number: 1206W4F1002T5E; Supplier 1: LCSC; Supplier Part Number 1: C17902; JLCPCB Part Number: C17902; Power Rating: 250mW; Category: Resistors; Package Size: 1206; JLCPCB Basic Part: Yes; Tolerance: ±1%; Voltage Rating: 200V; Temperature Coefficient: ±100ppm/℃; Temperature Rating: -55℃~+155℃; ComponentLink1Description: Datasheet; ComponentLink1URL: https://wmsc.lcsc.com/wmsc/upload/file/pdf/v2/lcsc/2206010145_UNI-ROYAL-Uniroyal-Elec-1206W4F1002T5E_C17902.pdf; ComponentLink2Description: JLCPCB Part URL; ComponentLink2URL: https://jlcpcb.com/partdetail/C17902
footprint RES-1206 (1206 (3216M) Resistor)
pins: 1, 2
1 alternate drawing of the same symbol

## 1206W4F1003T5E
designator R?  Resistance: 100kΩ  (hidden comment: *)
Resistor, 100kΩ, ±1%, 250mW, 200V, ±100ppm/℃, -55℃~+155℃, SMD 1206; Manufacturer: Uniroyal; Manufacturer Part Number: 1206W4F1003T5E; Supplier 1: LCSC; Supplier Part Number 1: C17900; JLCPCB Part Number: C17900; Power Rating: 250mW; Category: Resistors; Package Size: 1206; JLCPCB Basic Part: Yes; Tolerance: ±1%; Voltage Rating: 200V; Temperature Coefficient: ±100ppm/℃; Temperature Rating: -55℃~+155℃; ComponentLink1Description: Datasheet; ComponentLink1URL: https://wmsc.lcsc.com/wmsc/upload/file/pdf/v2/lcsc/2206010145_UNI-ROYAL-Uniroyal-Elec-1206W4F1003T5E_C17900.pdf; ComponentLink2Description: JLCPCB Part URL; ComponentLink2URL: https://jlcpcb.com/partdetail/C17900
footprint RES-1206 (1206 (3216M) Resistor)
pins: 1, 2
1 alternate drawing of the same symbol

## 1206W4F1004T5E
designator R?  Resistance: 1MΩ  (hidden comment: *)
Resistor, 1MΩ, ±1%, 250mW, 200V, ±100ppm/℃, -55℃~+155℃, SMD 1206; Manufacturer: Uniroyal; Manufacturer Part Number: 1206W4F1004T5E; Supplier 1: LCSC; Supplier Part Number 1: C17927; JLCPCB Part Number: C17927; Power Rating: 250mW; Category: Resistors; Package Size: 1206; JLCPCB Basic Part: Yes; Tolerance: ±1%; Voltage Rating: 200V; Temperature Coefficient: ±100ppm/℃; Temperature Rating: -55℃~+155℃; ComponentLink1Description: Datasheet; ComponentLink1URL: https://wmsc.lcsc.com/wmsc/upload/file/pdf/v2/lcsc/2206010145_UNI-ROYAL-Uniroyal-Elec-1206W4F1004T5E_C17927.pdf; ComponentLink2Description: JLCPCB Part URL; ComponentLink2URL: https://jlcpcb.com/partdetail/C17927
footprint RES-1206 (1206 (3216M) Resistor)
pins: 1, 2
1 alternate drawing of the same symbol

## 1206W4F1200T5E
designator R?  Resistance: 120Ω  (hidden comment: *)
Resistor, 120Ω, ±1%, 250mW, 200V, ±100ppm/℃, -55℃~+155℃, SMD 1206; Manufacturer: Uniroyal; Manufacturer Part Number: 1206W4F1200T5E; Supplier 1: LCSC; Supplier Part Number 1: C17909; JLCPCB Part Number: C17909; Power Rating: 250mW; Category: Resistors; Package Size: 1206; JLCPCB Basic Part: Yes; Tolerance: ±1%; Voltage Rating: 200V; Temperature Coefficient: ±100ppm/℃; Temperature Rating: -55℃~+155℃; ComponentLink1Description: Datasheet; ComponentLink1URL: https://wmsc.lcsc.com/wmsc/upload/file/pdf/v2/lcsc/2206010145_UNI-ROYAL-Uniroyal-Elec-1206W4F1200T5E_C17909.pdf; ComponentLink2Description: JLCPCB Part URL; ComponentLink2URL: https://jlcpcb.com/partdetail/C17909
footprint RES-1206 (1206 (3216M) Resistor)
pins: 1, 2
1 alternate drawing of the same symbol

## 1206W4F2001T5E
designator R?  Resistance: 2kΩ  (hidden comment: *)
Resistor, 2kΩ, ±1%, 250mW, 200V, ±100ppm/℃, -55℃~+155℃, SMD 1206; Manufacturer: Uniroyal; Manufacturer Part Number: 1206W4F2001T5E; Supplier 1: LCSC; Supplier Part Number 1: C17944; JLCPCB Part Number: C17944; Power Rating: 250mW; Category: Resistors; Package Size: 1206; JLCPCB Basic Part: Yes; Tolerance: ±1%; Voltage Rating: 200V; Temperature Coefficient: ±100ppm/℃; Temperature Rating: -55℃~+155℃; ComponentLink1Description: Datasheet; ComponentLink1URL: https://wmsc.lcsc.com/wmsc/upload/file/pdf/v2/lcsc/2206010145_UNI-ROYAL-Uniroyal-Elec-1206W4F2001T5E_C17944.pdf; ComponentLink2Description: JLCPCB Part URL; ComponentLink2URL: https://jlcpcb.com/partdetail/C17944
footprint RES-1206 (1206 (3216M) Resistor)
pins: 1, 2
1 alternate drawing of the same symbol

## 1206W4F3000T5E
designator R?  Resistance: 300Ω  (hidden comment: *)
Resistor, 300Ω, ±1%, 250mW, 200V, ±100ppm/℃, -55℃~+155℃, SMD 1206; Manufacturer: Uniroyal; Manufacturer Part Number: 1206W4F3000T5E; Supplier 1: LCSC; Supplier Part Number 1: C17887; JLCPCB Part Number: C17887; Power Rating: 250mW; Category: Resistors; Package Size: 1206; JLCPCB Basic Part: Yes; Tolerance: ±1%; Voltage Rating: 200V; Temperature Coefficient: ±100ppm/℃; Temperature Rating: -55℃~+155℃; ComponentLink1Description: Datasheet; ComponentLink1URL: https://wmsc.lcsc.com/wmsc/upload/file/pdf/v2/lcsc/2206010200_UNI-ROYAL-Uniroyal-Elec-1206W4F3000T5E_C17887.pdf; ComponentLink2Description: JLCPCB Part URL; ComponentLink2URL: https://jlcpcb.com/partdetail/C17887
footprint RES-1206 (1206 (3216M) Resistor)
pins: 1, 2
1 alternate drawing of the same symbol

## 1206W4F4701T5E
designator R?  Resistance: 4.7kΩ  (hidden comment: *)
Resistor, 4.7kΩ, ±1%, 250mW, 200V, ±100ppm/℃, -55℃~+155℃, SMD 1206; Manufacturer: Uniroyal; Manufacturer Part Number: 1206W4F4701T5E; Supplier 1: LCSC; Supplier Part Number 1: C17936; JLCPCB Part Number: C17936; Power Rating: 250mW; Category: Resistors; Package Size: 1206; JLCPCB Basic Part: Yes; Tolerance: ±1%; Voltage Rating: 200V; Temperature Coefficient: ±100ppm/℃; Temperature Rating: -55℃~+155℃; ComponentLink1Description: Datasheet; ComponentLink1URL: https://wmsc.lcsc.com/wmsc/upload/file/pdf/v2/lcsc/2206010145_UNI-ROYAL-Uniroyal-Elec-1206W4F4701T5E_C17936.pdf; ComponentLink2Description: JLCPCB Part URL; ComponentLink2URL: https://jlcpcb.com/partdetail/C17936
footprint RES-1206 (1206 (3216M) Resistor)
pins: 1, 2
1 alternate drawing of the same symbol

## 3529
designator FH?, comment FUSE CLIP CARTRIDGE 15A PCB  (value not drawn)
Fuse Clip 15 A 1 Circuit Cartridge Through Hole; Supplier 1: Digikey; Supplier Part Number 1: 36-3529-ND; Supplier 2: LCSC; Supplier Part Number 2: C717028; Supplier 3: Digikey; Supplier Part Number 3: F3781-ND; Supplier 4: LCSC; Supplier Part Number 4: C142745
footprint FUSE_3529
pins: 1

## 7770
designator J?, comment TERM SCREW M3 4 PIN PCB
Supplier 1: LCSC; Supplier Part Number 1: C5272782
footprint KEYSTONE_7770
pins: 1, 2, 3, 4

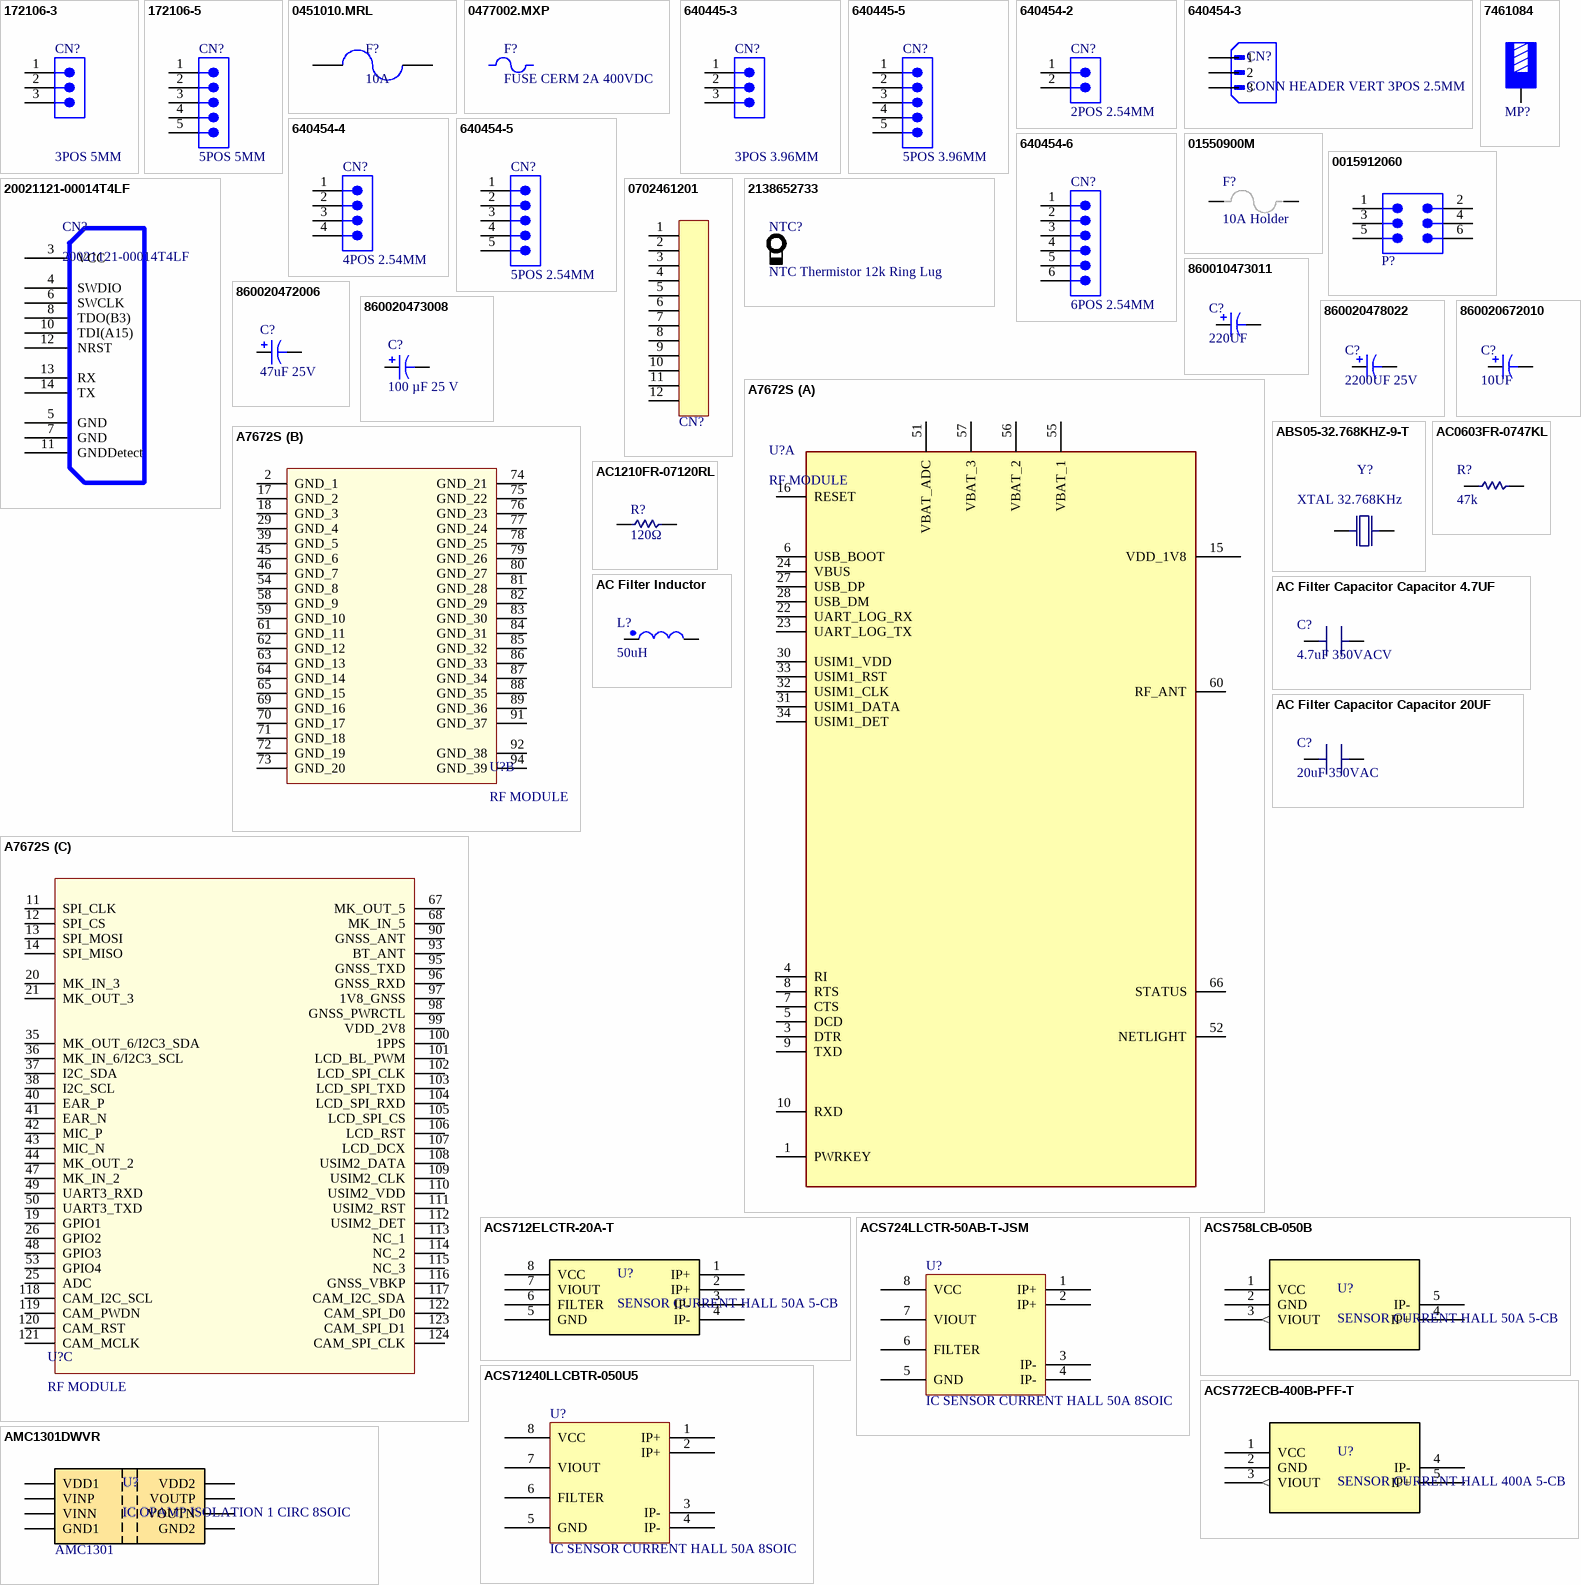
[diagram p6: symbols 172106-3 to AMC1301DWVR]

## 172106-3
designator CN?, comment 3POS 5MM
CONN HEADER VERT 3POS 5MM; Supplier 1: DigiKey; Supplier Part Number 1: A107495-ND; Supplier 2: LCSC; Supplier Part Number 2: C22394556
footprint HEADER 5mm Male Locking Header, 3p (5mm Male Locking Header, 3p)
pins: 1, 2, 3

## 172106-5
designator CN?, comment 5POS 5MM
CONN HEADER VERT 5POS 5MM; Supplier 1: DigiKey; Supplier Part Number 1: A107496-ND; Supplier 2: LCSC; Supplier Part Number 2: C3014389
footprint HEADER 5mm Male Locking Header, 5p (5mm Male Locking Header, 5p)
pins: 1, 2, 3, 4, 5

## 0451010.MRL
designator F?, comment 10A
FUSE BRD MNT 10A 125VAC/VDC 2SMD; Supplier 1: DigiKey; Supplier Part Number 1: F2591CT-ND; Supplier 2: LCSC; Supplier Part Number 2: C44479
footprint FUSE SMD 2410
pins: 1, 2

## 0477002.MXP
designator F?, comment FUSE CERM 2A 400VDC  (mechanical)
FUSE CERM 2A 500VAC 400VDC 5X20; Supplier 1: Digikey; Supplier Part Number 1: F2987-ND; Supplier 2: LCSC; Supplier Part Number 2: C187634; Supplier 3: Digikey; Supplier Part Number 3: 486-4873-ND; Supplier 4: LCSC; Supplier Part Number 4: C356445

## 640445-3
designator CN?, comment 3POS 3.96MM
CONN HEADER VERT 3POS 3.96MM ,Mating hight 10mm; Supplier 1: LCSC; Supplier Part Number 1: C86498
footprint HEADER 3.96mm Male Locking Header, 3p (3.96mm Male Locking Header, 3p)
pins: 1, 2, 3

## 640445-5
designator CN?, comment 5POS 3.96MM
CONN HEADER VERT 5POS 3.96MM ,Mating hight 10mm; Supplier 1: LCSC; Supplier Part Number 1: C86499
footprint HEADER 3.96mm Male Locking Header, 5p (3.96mm Male Locking Header, 5p)
pins: 1, 2, 3, 4, 5

## 640454-2
designator CN?, comment 2POS 2.54MM
CONN HEADER VERT 2POS 2.54MM; Supplier 1: DigiKey; Supplier Part Number 1: A19423-ND; Supplier 2: LCSC; Supplier Part Number 2: C86501
footprint HEADER 2.54mm Male Locking Header, 2p (2.54mm Male Locking Header, 2p)
pins: 1, 2

## 640454-3
designator CN?, comment CONN HEADER VERT 3POS 2.5MM
Supplier 2: LCSC; Supplier Part Number 2: C305803
footprint HEADER 1X3 FEMALE 2.54 SHROUDED 1SIDE
pins: 1, 2, 3

## 640454-4
designator CN?, comment 4POS 2.54MM
CONN HEADER VERT 4POS 2.54MM; Supplier 1: DigiKey; Supplier Part Number 1: A19431-ND; Supplier 2: LCSC; Supplier Part Number 2: C2847671
footprint HEADER 2.54mm Male Locking Header, 4p (2.54mm Male Locking Header, 4p)
pins: 1, 2, 3, 4

## 640454-5
designator CN?, comment 5POS 2.54MM
CONN HEADER VERT 5POS 2.54MM; Supplier 1: DigiKey; Supplier Part Number 1: A19432-ND; Supplier 2: LCSC; Supplier Part Number 2: C27544
footprint HEADER 2.54mm Male Locking Header, 5p (2.54mm Male Locking Header, 5p)
pins: 1, 2, 3, 4, 5

## 640454-6
designator CN?, comment 6POS 2.54MM
CONN HEADER VERT 6POS 2.54MM; Supplier 1: DigiKey; Supplier Part Number 1: A19433-ND; Supplier 2: LCSC; Supplier Part Number 2: C593126
footprint HEADER 2.54mm Male Locking Header, 6p (2.54mm Male Locking Header, 6p)
pins: 1, 2, 3, 4, 5, 6

## 01550900M
designator F?, comment 10A Holder
FUSE BLOK CARTRIDGE 125V 10A SMD; Supplier 1: DigiKey; Supplier Part Number 1: F1889-ND; Supplier 2: LCSC; Supplier Part Number 2: C108518
footprint FUSE_SMD 2410 HOLDER
pins: 1, 2

## 7461084
designator MP?, comment M6 x 9mm  (value not drawn)
TERMINAL WP-BUTR REDCUBE PRESS-FIT with internal thread, two-rows, L10W10H13.5mm, M6 x 9mm, 160A; ComponentLink1Description: Website Link; ComponentLink1URL: https://www.we-online.com/redexpert/article/7461084?ad; ComponentLink2Description: Datasheet Link; ComponentLink2URL: https://www.we-online.com/redexpert/spec/7461084?ad; Supplier 1: Wurth Elktronik; Supplier Part Number 1: https://www.we-online.com/en/components/products/WP-BUTR_TWO-ROWS#7461084
footprint 7461084_HAL (WP-BUTR Bushes with two Rows Pin-Plate, M6, blind 9mm)
pins: 1

## 0015912060
designator P?, comment PIN HEADER  (value not drawn)
CONN HEADER SMD 2X3POS 2.54MM; Supplier 1: DigiKey; Supplier Part Number 1: WM17449-ND; Supplier 2: LCSC; Supplier Part Number 2: C32713283
footprint HEADER 2X3 MALE SMD 2.54mm Vert (Pin Header, pitch 2.54 mm, SMD, Vertical, dual row, 6p)
pins: 1, 2, 3, 4, 5, 6

## 20021121-00014T4LF
designator CN?
CONN HEADER SMD 14POS 1.27MM; Supplier 1: Digi-Key; Supplier 2: LCSC; Supplier Part Number 2: C41370775; Supplier Part Number 1: 609-3730-ND
footprint HEADER 2X7 MALE SMD 1.27mm (Pin Header, pitch 1.27 mm, SMD, Vertical, dual row, 14p)
pins: 3 VCC, 4 SWDIO, 5 GND, 6 SWCLK, 7 GND, 8 TDO(B3), 10 TDI(A15), 11 GNDDetect, 12 NRST, 13 RX, 14 TX

## 0702461201
designator CN?  (value not drawn)
CONN HEADER VERT 12POS 2.54MM; ComponentLink1Description: LCSC; ComponentLink1URL: https://www.lcsc.com/product-detail/Wire-To-Board-Connector-Pin-Header_Boom-Precision-Elec-2-54mm-2-6-Straight-IDC-Box_C9136.html; Supplier 1: Digikey; Supplier Part Number 1: 23-0702461201-ND; Supplier 2: LCSC; Supplier Part Number 2: C9136; Supplier 3: Digikey; Supplier Part Number 3: 2057-BHR-12-VUA-ND
footprint 0702461201 (CONN HEADER VERT 12POS 2.54MM)
pins: 1, 2, 3, 4, 5, 6, 7, 8, 9, 10, 11, 12

## 2138652733
designator NTC?, comment NTC Thermistor 12k Ring Lug  (mechanical)
NTC RING CBL 3982 M3.5 75MM 12K; Supplier 1: Digikey; Supplier Part Number 1: 900-2138652733-ND; Supplier 2: Mouser; Supplier Part Number 2: 538-213865-2733; Supplier 3: Made In China; Supplier Part Number 3: https://www.digikey.com/en/products/detail/vishay-beyschlag-draloric-bc-components/NTCALUG03A103GC/2230709

## 860010473011
designator C?, comment 220UF
CAP ALUM 220UF 20% 25V RADIAL TH; Supplier 1: Digikey; Supplier Part Number 1: 732-8634-1-ND; Supplier 2: LCSC; Supplier Part Number 2: C141282; Supplier 3: Digikey; Supplier Part Number 3: 1189-2913-ND; Supplier 4: LCSC; Supplier Part Number 4: C88729
footprint CAP TH ALUM ELEC D6.30mm S2.50mm H11.00mm (6.3mm Diameter 2.5mm Lead Spacing Aluminum Electrolytic Capacitors Radial, Can)
pins: 1, 2

## 860020472006
designator C?, comment 47uF 25V
CAP ALUM 47UF 20% 25V RADIAL TH; Supplier 1: Digikey; Supplier Part Number 1: 732-8823-1-ND; Supplier 2: LCSC; Supplier Part Number 2: C106702; Supplier 3: Digikey; Supplier Part Number 3: 1189-2919-ND; Supplier 4: LCSC; Supplier Part Number 4: C88761
footprint CAP TH ALUM ELEC D5.00mm S2.00mm H12.00mm (5mm Diameter 2mm Lead Spacing Aluminum Electrolytic Capacitors Radial, Can)
pins: 1, 2

## 860020473008
designator C?, comment 100 µF 25 V
CAP ALUM 100UF 20% 25V RADIAL TH; Supplier 1: Digikey; Supplier Part Number 1: 732-8825-1-ND; Supplier 2: LCSC; Supplier Part Number 2: C47873; Supplier 3: Digikey; Supplier Part Number 3: 1189-2260-ND; Supplier 4: LCSC; Supplier Part Number 4: C88754
footprint CAP TH ALUM ELEC D6.30mm S2.50mm H12.50mm (6.3mm Diameter 2.5mm Lead Spacing Aluminum Electrolytic Capacitors Radial, Can)
pins: 1, 2

## 860020478022
designator C?, comment 2200UF 25V
CAP ALUM 2200UF 20% 25V RADIAL; Supplier 1: Digikey; Supplier Part Number 1: 732-8839-1-ND; Supplier 2: LCSC; Supplier Part Number 2: C106733; Supplier 3: Digikey; Supplier Part Number 3: 1189-25PK2200MEFC12.5X20-ND; Supplier 4: LCSC; Supplier Part Number 4: C44598
footprint CAP TH ALUM ELEC D13.00mm S5.00mm H26.50mm (13mm Diameter 5mm Lead Spacing Aluminum Electrolytic Capacitors Radial, Can)
pins: 1, 2

## 860020672010
designator C?, comment 10UF
CAP ALUM 10UF 20% 25V RADIAL TH; Supplier 1: Digikey; Supplier Part Number 1: 732-8856-1-ND; Supplier 2: LCSC; Supplier Part Number 2: C106654; Supplier 3: Digikey; Supplier Part Number 3: 399-6599-ND; Supplier 4: LCSC; Supplier Part Number 4: C43345
footprint CAP TH ALUM ELEC D5.00mm S2.00mm H12.00mm (5mm Diameter 2mm Lead Spacing Aluminum Electrolytic Capacitors Radial, Can)
pins: 1, 2